# EAGLE library part CAN-BUS_HW184 (library ovms_lilygo)
CAN-Bus Module based on MCP2515 controller
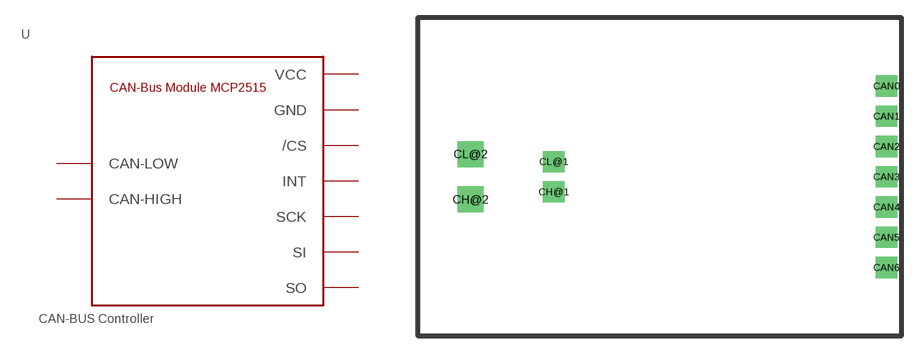
[diagram p2: symbol with the pads of CAN-MODULE_HW184; footprint CAN-MODULE_HW184]

Designator prefix -

## CAN-BUS_HW184  [CAN-MODULE_HW184]
CAN0  VCC
CAN1  GND
CAN2  /CS
CAN3  SO
CAN4  SI
CAN5  SCK
CAN6  INT
CH@1  CAN-HIGH
CH@2  CAN-HIGH
CL@1  CAN-LOW
CL@2  CAN-LOW

## Footprint CAN-MODULE_HW184 (pad centres in mm)
drill 0.7 pad 1.778 square: CAN0 -1.27,-6.35; CAN1 -1.27,-8.89; CAN2 -1.27,-11.43; CAN3 -1.27,-13.97; CAN4 -1.27,-16.51; CAN5 -1.27,-19.05; CAN6 -1.27,-21.59; CH@1 -29.21,-15.24; CL@1 -29.21,-12.7
drill 0.8 pad 2.184 square: CH@2 -36.195,-15.875; CL@2 -36.195,-12.065